# Altium footprint library PcbLib1.PcbLib: 20 footprints (part 2 of 2)
Each footprint in its own frame and in the unit in brackets; x right, y up, seen from the top. Pads: shape width x height; smd on the part's side, far side on the other; paste and mask are expansions set on the pad; w line width, h text height; cw(c..) or ccw(c..) is an arc to the next point about the centre after c.
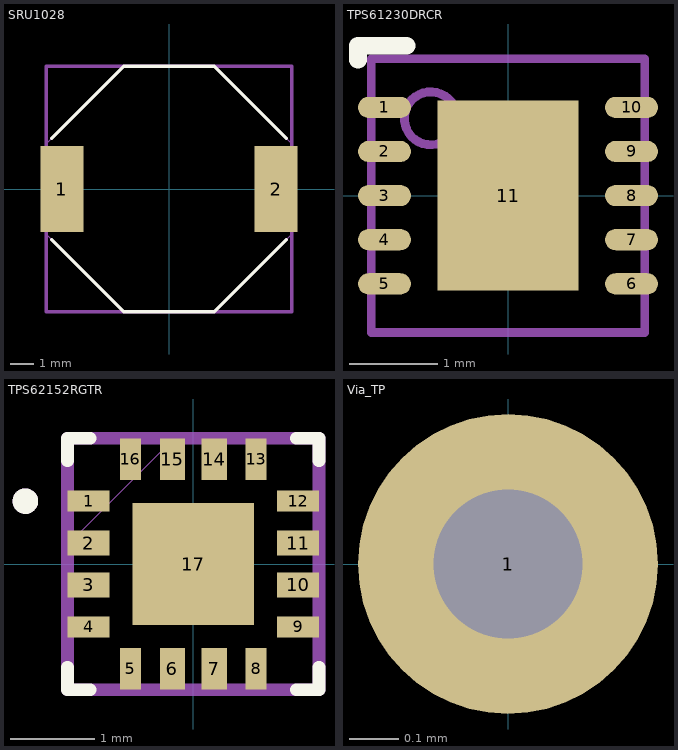
[diagram p1: the footprints below, top view; thin cyan lines are the x and y axes]

## SRU1028 [mil]
pads (2):
  rect 71x142 smd: 1(-177,0) 2(177,0)
Top Overlay:
  lines w6: -193.9,-84.1 -75,-203 75,-203 193.9,-84.1 ; -193.9,84.1 -75,203 75,203 193.9,84.1
Mechanical 1:
  lines w6: -203,-203 203,-203 203,203 -203,203 -203,-203
Mechanical 13:
  lines w0: -203,-75 -75,-203 75,-203 203,-75 203,75 75,203 -75,203 -203,75 -203,-75
3D body: height 198.36, standoff 0, extent -196.85,-196.85 196.85,196.85

## TPS61230DRCR [mm]
pads (11):
  oval 0.6x0.24 smd paste-0.102 mask+0.051: 1(-1.4,1) 2(-1.4,0.5) 3(-1.4,0) 4(-1.4,-0.5) 5(-1.4,-1) 6(1.4,-1) 7(1.4,-0.5) 8(1.4,0) 9(1.4,0.5) 10(1.4,1)
  rect 1.6x2.15 smd paste-0.825 mask+0.051: 11(0,0)
Top Overlay:
  lines w0.2: -1.7,1.54 -1.7,1.7 -1.15,1.7
Top Paste:
  region: -0.69,-0.1 -0.69,-1.039 0.676,-1.039 0.676,-0.1
  region: -0.685,1.039 -0.685,0.1 0.681,0.1 0.681,1.039
Top Solder:
  region: 0.756,0.999 0.756,1.551 0.474,1.551 0.474,0.999
  region: 0.346,0.999 0.346,1.551 0.064,1.551 0.064,0.999
  region: -0.064,0.999 -0.064,1.551 -0.346,1.551 -0.346,0.999
  region: -0.474,0.999 -0.474,1.551 -0.756,1.551 -0.756,0.999
  region: -0.474,-1.551 -0.474,-0.999 -0.756,-0.999 -0.756,-1.551
  region: -0.064,-1.551 -0.064,-0.999 -0.346,-0.999 -0.346,-1.551
  region: 0.346,-1.551 0.346,-0.999 0.064,-0.999 0.064,-1.551
  region: 0.756,-1.551 0.756,-0.999 0.474,-0.999 0.474,-1.551
Mechanical 1:
  circle w0.1: c-0.875,0.875 r0.3
  lines w0.1: -1.55,-1.55 -1.55,1.55 1.55,1.55 1.55,-1.55 -1.55,-1.55
Mechanical 13:
  circle w0.1: c-0.875,0.875 r0.3
  lines w0.1: -1.55,-1.55 -1.55,1.55 1.55,1.55 1.55,-1.55 -1.55,-1.55
3D body: height 1, standoff 0, extent -1.6,-1.6 1.6,1.6

## TPS62152RGTR [mm]
height 1
pads (17):
  rect 0.5x0.25 smd: 1(-1.25,0.75) 4(-1.25,-0.75) 9(1.25,-0.75) 12(1.25,0.75)
  rect 0.5x0.3 smd: 2(-1.25,0.25) 3(-1.25,-0.25) 10(1.25,-0.25) 11(1.25,0.25)
  rect 0.25x0.5 smd: 5(-0.75,-1.25) 8(0.75,-1.25) 13(0.75,1.25) 16(-0.75,1.25)
  rect 0.3x0.5 smd: 6(-0.25,-1.25) 7(0.25,-1.25) 14(0.25,1.25) 15(-0.25,1.25)
  rect 1.45x1.45 smd paste-0.837: 17(0,0)
Top Overlay:
  circle w0.152: c-2.004,0.75 r0.076
  lines w0.152: -1.5,-1.233 -1.5,-1.5 -1.233,-1.5 ; -1.5,1.233 -1.5,1.5 -1.233,1.5 ; 1.233,-1.5 1.5,-1.5 1.5,-1.233 ; 1.233,1.5 1.5,1.5 1.5,1.233
Top Paste:
  region: 0.85,0.85 -0.85,0.85 -0.85,-0.85 0.85,-0.85
Mechanical 1:
  circle w0.152: c-2.004,0.75 r0.076
  lines w0.152: -1.5,-1.5 1.5,-1.5 1.5,1.5 -1.5,1.5 -1.5,-1.5
Mechanical 13:
  circle w0: c-2.004,0.75 r0.076
  lines w0: -1.5,0.23 -0.23,1.5 ; -1.5,-1.5 -1.5,1.5 1.5,1.5 1.5,-1.5 -1.5,-1.5
3D body: height 0.9, standoff 0, extent -1.549,-1.521 1.493,1.521

## Via_TP [mm]
pads (1):
  round 0.604 hole 0.3: 1(0,0)